# EAGLE library part V__6-LT-05 (library ++Bedrahtet)
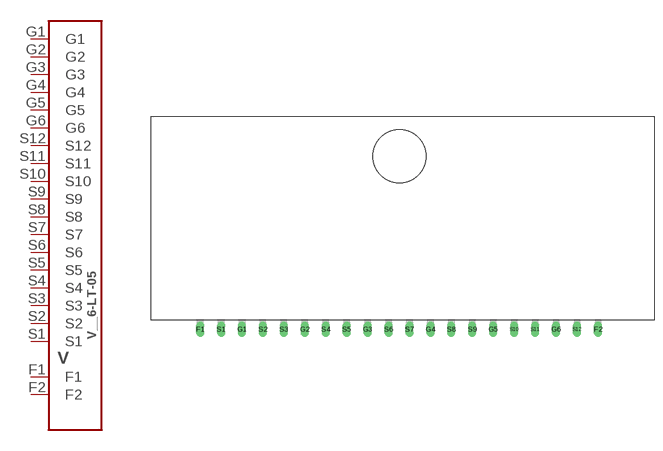
[diagram p39: symbol with the pads of VFD_6-LT-05; footprint VFD_6-LT-05]

Designator prefix V

## V__6-LT-05  [VFD_6-LT-05]
F1  F1
F2  F2
G1  G1
G2  G2
G3  G3
G4  G4
G5  G5
G6  G6
S1  S1
S2  S2
S3  S3
S4  S4
S5  S5
S6  S6
S7  S7
S8  S8
S9  S9
S10  S10
S11  S11
S12  S12

## Footprint VFD_6-LT-05 (pad centres in mm)
drill 1 long: F1 0,0; F2 76,0; G1 8,0; G2 20,0; G3 32,0; G4 44,0; G5 56,0; G6 68,0; S1 4,0; S2 12,0; S3 16,0; S4 24,0; S5 28,0; S6 36,0; S7 40,0; S8 48,0; S9 52,0; S10 60,0; S11 64,0; S12 72,0